# EAGLE library part MOLEX_51021-0600 (library m_connector)
Molex 51021-0600 PicoBlade Housing 1.25mm Pitch PicoBlade™ Wire-to-Wire and Wire-to-Board Housing, Female, 6 Circuits Product page: http://www.molex.com/molex/products/datasheet.jsp?part=active/0510210400_CRIMP_HOUSINGS.xml&channel=Products&Lang=en-US Added 2015-12-18 Use With: 50058 Crimp Terminal <http://www.molex.com/molex/products/listview.jsp?query=50058&path=cHome%23%23-1%23%23-1~~ncCRIMPTERMINALS%23%230%23%232&offset=0&autoNav=1&sType=s&filter=&fs=&channel=Products> (28-32 AWG), 50079 Crimp Terminal <http://www.molex.com/molex/products/listview.jsp?query=50079&path=cHome%23%23-1%23%23-1~~ncCRIMPTERMINALS%23%230%23%232&offset=0&autoNav=1&sType=s&filter=&fs=&channel=Products> (26-28 AWG).
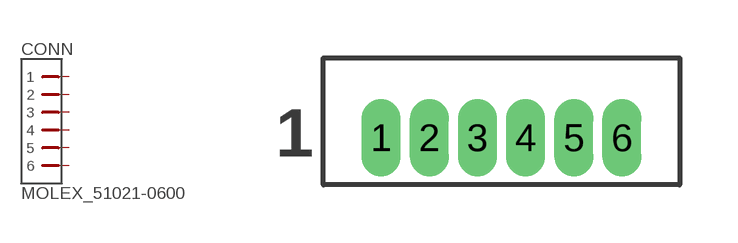
[diagram p10: symbol with the pads of MOLEX_53047-0610; footprint MOLEX_53047-0610]

Designator prefix CONN

## MOLEX_51021-0600 (MANUF: Molex; PARTNUM: 51021-0600)  [MOLEX_53047-0610]
1  1  pas
2  2  pas
3  3  pas
4  4  pas
5  5  pas
6  6  pas

## Footprint MOLEX_53047-0610 (pad centres in mm)
Molex 53047 Series, 1.25mm Pitch, 6 Conductor Molex 1.25mm pitch through hole connector. Pre tinned phosphor bronze pins, mates with 51021 series.
drill 0.5 long: 1 -3.125,0; 2 -1.875,0; 3 -0.625,0; 4 0.625,0; 5 1.875,0; 6 3.125,0